# Altium footprint library Iot_board_pcblib.PcbLib: 18 footprints (part 2 of 2)
Each footprint in its own frame and in the unit in brackets; x right, y up, seen from the top. Pads: shape width x height; smd on the part's side, far side on the other; paste and mask are expansions set on the pad; w line width, h text height; cw(c..) or ccw(c..) is an arc to the next point about the centre after c.
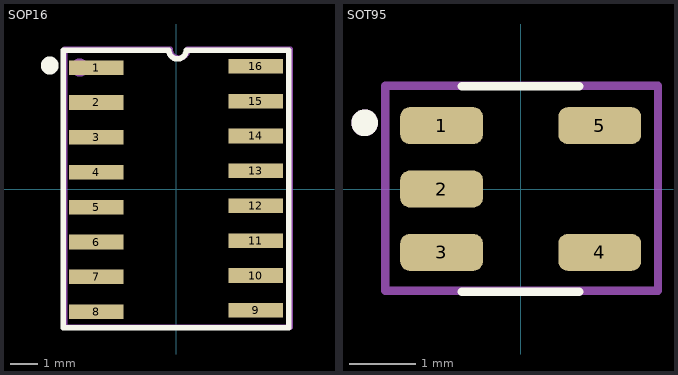
[diagram p1: the footprints below, top view; thin cyan lines are the x and y axes]

## SOP16 [mm]
pads (16):
  rect 1.98x0.53 smd: 1(-2.907,4.42) 2(-2.907,3.15) 3(-2.907,1.88) 4(-2.907,0.61) 5(-2.907,-0.66) 6(-2.907,-1.93) 7(-2.907,-3.2) 8(-2.907,-4.47) 9(2.907,-4.42) 10(2.907,-3.15) 11(2.907,-1.88) 12(2.907,-0.61) 13(2.907,0.66) 14(2.907,1.93) 15(2.907,3.2) 16(2.907,4.47)
Top Overlay:
  circle w0.508: c-4.597,4.496 r0.072
  lines w0.2: -4.101,-5.055 -4.101,5.055 -0.267,5.055 ccw(c0.051,5.055) 0.368,5.055 4.103,5.055 4.103,-5.055 -4.101,-5.055
Mechanical 29:
  circle w0.508: c-3.505,4.42 r0.072
  lines w0.2: -4.05,-5.029 -4.05,5.08 -0.216,5.08 ccw(c0.102,5.08) 0.419,5.08 4.154,5.08 4.154,-5.029 -4.05,-5.029
  text ".Designator" at -0.094,-4.448 h0.9
3D body "DS3231SN.STEP": height 1.75, standoff 0, extent -2.935,-4.95 3.065,4.95

## SOT95 [mm]
pads (5):
  rrect50% 1.24x0.55 smd: 1(-1.185,0.95) 2(-1.185,0) 3(-1.185,-0.95) 4(1.185,-0.95) 5(1.185,0.95)
Top Overlay:
  circle w0.2: c-2.337,0.991 r0.1
  lines w0.127: -0.88,-1.54 0.88,-1.54 ; -0.88,1.54 0.88,1.54
Mechanical 29:
  circle w0.2: c-2.337,0.991 r0.1
  lines w0.127: -2.032,-1.524 2.057,-1.524 2.057,1.549 -2.032,1.549 -2.032,-1.524
  text ".Designator" at 0.199,-1.55 h0.6
3D body "ADP160AUJZ-3.3-R7.STEP": height 0.95, standoff -0.05, extent -1.425,-1.45 1.375,1.45